# Altium footprint library PCB1.PcbLib: 15 footprints
Each footprint in its own frame and in the unit in brackets; x right, y up, seen from the top. Pads: shape width x height; smd on the part's side, far side on the other; paste and mask are expansions set on the pad; w line width, h text height; cw(c..) or ccw(c..) is an arc to the next point about the centre after c.
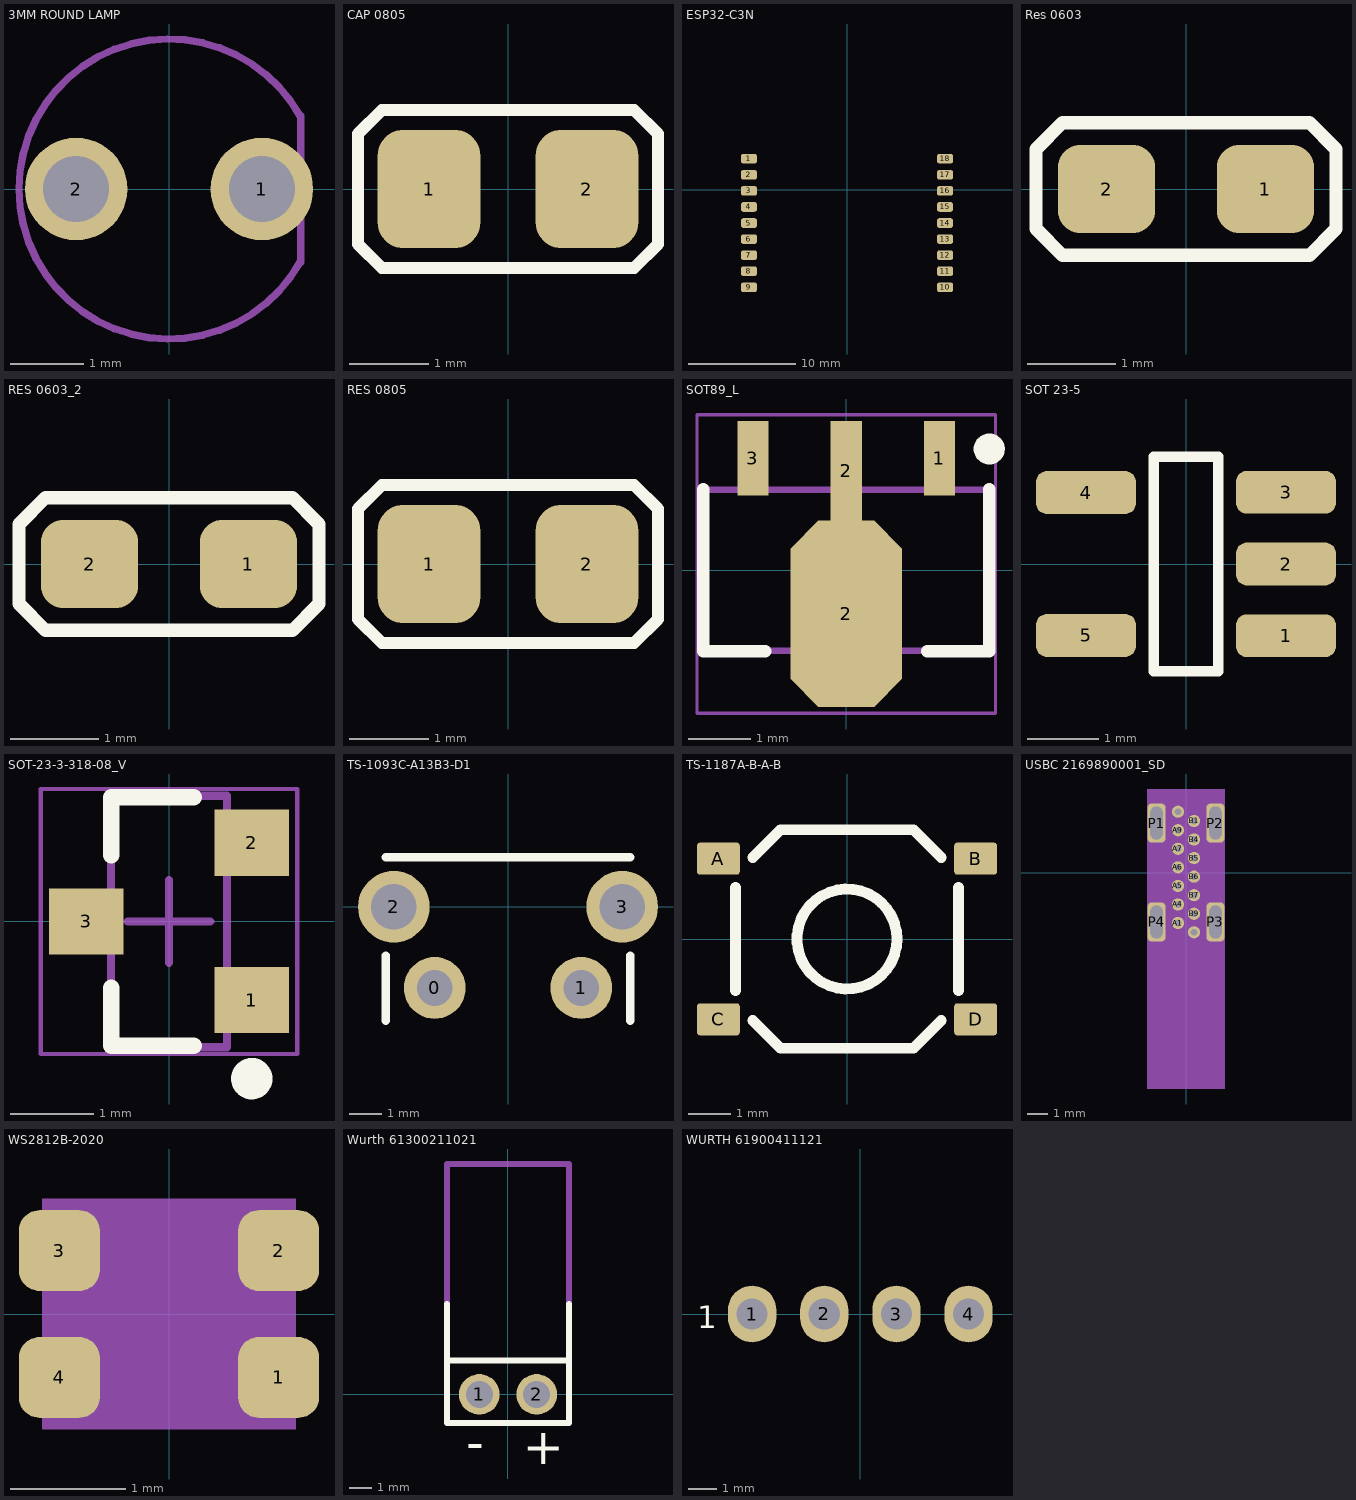
[diagram p0: the footprints below, top view; thin cyan lines are the x and y axes]

## 3MM ROUND LAMP [mm]
pads (2):
  round 1.4 hole 0.9: 1(1.27,0) 2(-1.27,0)
Mechanical 1:
  lines w0.1: 1.793,-0.994 cw(c0,0) 1.793,0.994 ; 1.8,-1 1.8,1
3D body "PCB components - LED.step": height 6.02, standoff -2.4, extent -2.05,-17.35 1.52,0.25

## CAP 0805 [mm]
pads (2):
  rrect50% 1.3x1.5 smd: 1(-1,0) 2(1,0)
Top Overlay:
  lines w0.15: -1.9,-0.7 -1.6,-1 1.6,-1 1.9,-0.7 1.9,0.7 1.6,1 -1.6,1 -1.9,0.7 -1.9,-0.7
3D body "CAPC-0805-T0.7-BN.stp": height 0.7, standoff 0, extent -1.05,-0.675 1.05,0.675

## ESP32-C3N [mm]
pads (18):
  rrect50% 1.5x0.9 smd: 1(-9.15,2.9) 2(-9.15,1.4) 3(-9.15,-0.1) 4(-9.15,-1.6) 5(-9.15,-3.1) 6(-9.15,-4.6) 7(-9.15,-6.1) 8(-9.15,-7.6) 9(-9.15,-9.1) 10(9.15,-9.1) 11(9.15,-7.6) 12(9.15,-6.1) 13(9.15,-4.6) 14(9.15,-3.1) 15(9.15,-1.6) 16(9.15,-0.1) 17(9.15,1.4) 18(9.15,2.9)
Multi-Layer:
  pour cut-out: -14,10 -14,4 14,4 14,10
3D body "PCB components - ESP32-C3-13.step": height 3.2, standoff 0, extent -9,-10 9,10

## Res 0603 [mm]
pads (2):
  rrect50% 1.1x1 smd: 1(0.9,0) 2(-0.9,0)
Top Overlay:
  lines w0.15: -1.7,-0.45 -1.7,0.45 -1.4,0.75 1.4,0.75 1.7,0.45 1.7,-0.45 1.4,-0.75 -1.4,-0.75 -1.7,-0.45
3D body "RESC-0603.stp": height 0.55, standoff 0, extent -0.85,-0.45 0.85,0.45

## RES 0603_2 [mm]
pads (2):
  rrect50% 1.1x1 smd: 1(0.9,0) 2(-0.9,0)
Top Overlay:
  lines w0.15: -1.7,-0.45 -1.7,0.45 -1.4,0.75 1.4,0.75 1.7,0.45 1.7,-0.45 1.4,-0.75 -1.4,-0.75 -1.7,-0.45
3D body "RESC-0603.stp": height 0.55, standoff 0, extent -0.85,-0.45 0.85,0.45

## RES 0805 [mm]
pads (2):
  rrect50% 1.3x1.5 smd: 1(-1,0) 2(1,0)
Top Overlay:
  lines w0.15: -1.9,-0.7 -1.6,-1 1.6,-1 1.9,-0.7 1.9,0.7 1.6,1 -1.6,1 -1.9,0.7 -1.9,-0.7
3D body "ferrite_bead_0805.STEP": height 0.9, standoff 0, extent -1,-0.6 1,0.6

## SOT89_L [mm]
pads (4):
  rect 0.5x1.2 smd: 1(1.5,1.8) 3(-1.5,1.8)
  oct 1.8x3 smd: 2(0,-0.7)
  rect 0.5x1.6 smd: 2(0,1.6)
Top Overlay:
  circle w0.25: c2.3,1.95 r0.125
  lines w0.2: -2.3,1.3 -2.3,-1.3 -1.3,-1.3 ; 1.3,-1.3 2.3,-1.3 2.3,1.3
Mechanical 13:
  lines w0.1: -2.3,-1.295 2.3,-1.295 2.3,1.295 -2.3,1.295 -2.3,-1.295
Mechanical 15:
  lines w0.05: -2.4,-2.3 2.4,-2.3 2.4,2.5 -2.4,2.5 -2.4,-2.3
  lines w0.1: -0.5,0 0.5,0 ; 0,-0.5 0,0.5
3D body: height 1.6, standoff 0, extent -2.3,-1.295 2.3,1.295

## SOT 23-5 [mm]
pads (5):
  rrect50% 1.4x0.6 smd: 1(1.4,-1.004) 2(1.4,0) 3(1.4,1.004) 4(-1.4,1) 5(-1.4,-1)
Top Overlay:
  lines w0.15: -0.45,-1.5 0.45,-1.5 0.45,1.5 -0.45,1.5 -0.45,-1.5
3D body "SOT23-5.stp": height 1.2, standoff 0.02, extent -1.5,-1.418 1.5,1.418

## SOT-23-3-318-08_V [mm]
pads (3):
  rect 0.9x0.8 smd: 1(1,-0.95) 2(1,0.95) 3(-1,0)
Top Overlay:
  circle w0.25: c1,-1.9 r0.125
  lines w0.2: -0.7,-0.8 -0.7,-1.5 0.3,-1.5 ; -0.7,0.8 -0.7,1.5 0.3,1.5
Mechanical 13:
  lines w0.1: -0.7,-1.52 -0.7,1.52 0.7,1.52 0.7,-1.52 -0.7,-1.52
Mechanical 15:
  lines w0.05: -1.55,-1.6 -1.55,1.6 1.55,1.6 1.55,-1.6 -1.55,-1.6
  lines w0.1: -0.5,0 0.5,0 ; 0,-0.5 0,0.5
3D body "SOT95P237X111-3L.step": height 1.11, standoff 0, extent -1.42,-1.52 1.42,1.52

## TS-1093C-A13B3-D1 [mm]
pads (4):
  round 1.9 hole 1.1: 0(-2.25,-2.49) 1(2.25,-2.49)
  round 2.2 hole 1.4: 2(-3.505,0) 3(3.505,0)
Top Overlay:
  lines w0.254: -3.75,-3.5 -3.75,-1.5 ; -3.75,1.52 3.75,1.52 ; 3.75,-3.5 3.75,-1.5
3D body "PCB components - Angled button (1).step": height 7.02, standoff -3.51, extent -4.11,-8.43 4.3,1.43

## TS-1187A-B-A-B [mm]
pads (4):
  rrect20% 1x0.75 smd: A(-3,1.875) B(3,1.875) C(-3,-1.875) D(3,-1.875)
Top Overlay:
  circle w0.254: c0,0 r1.166
  lines w0.254: -2.6,-1.2 -2.6,1.2 ; -2.2,-1.9 -1.55,-2.55 1.55,-2.55 2.2,-1.9 ; -2.2,1.9 -1.55,2.55 1.55,2.55 2.2,1.9 ; 2.6,-1.2 2.6,1.2
3D body "PCB components - TS-1187A-B-A-B.step": height 1.4, standoff 0, extent -3.239,-2.6 3.261,2.5

## USBC 2169890001_SD [mm]
pads (18):
  round 0.59 hole 0.33 paste+0 mask+0.05: A1(-0.39,-2.45) A4(-0.39,-1.55) A5(-0.39,-0.65) A6(-0.39,0.25) A7(-0.39,1.15) A9(-0.39,2.05) A12(-0.39,2.95) B1(0.39,2.5) B4(0.39,1.6) B5(0.39,0.7) B6(0.39,-0.2) B7(0.39,-1.1) B9(0.39,-2) B12(0.39,-2.9)
  rrect50% 0.88x1.9 hole 0.6 slot 1.6 at 90 deg paste+0 mask+0.05: P1(-1.43,2.4) P2(1.43,2.4) P3(1.43,-2.4) P4(-1.43,-2.4)
Mechanical 1:
  rectangle: -1.88,-10.5 1.88,4.05
3D body "PCB components - USB-C Connector.step": height 8.94, standoff -2.5, extent -1.9,-10.55 1.86,4

## WS2812B-2020 [mm]
pads (4):
  rrect50% 0.7x0.7 smd mask+0.08: 1(0.95,-0.55) 2(0.95,0.55) 3(-0.95,0.55) 4(-0.95,-0.55)
Mechanical 1:
  rectangle: -1.1,-1 1.1,1
3D body "PCB components - Neopixel Nano.step": height 0.84, standoff 0, extent -1.1,-1 1.1,1

## Wurth 61300211021 [mm]
pads (2):
  round 1.8 hole 1.2: 1(-1.27,0) 2(1.27,0)
Top Overlay:
  lines w0.254: -2.7,1.5 2.7,1.5 ; -2.7,4 -2.7,1.3 -2.7,-1.27 2.7,-1.27 2.7,1.5 ; 2.7,4 2.7,1.5
  text "+" at 0.658,-3.081 h1.6
  text "-" at -1.838,-2.883 h1.6
Bottom Overlay:
  text "-" at -1.7,-2.758 h0.8
  text "+" at 1.659,-2.581 h0.8
Mechanical 1:
  lines w0.254: -2.7,0.5 -2.7,10.2 2.7,10.2 2.7,0.5
3D body "61300211021_Download_STP_61300211021_rev1.stp": height 2.57, standoff -2.97, extent -2.54,-0.29 2.54,10.07

## WURTH 61900411121 [mm]
pads (4):
  oval 1.7x2 hole 1.1: 1(-3.81,0) 2(-1.27,0) 3(1.27,0) 4(3.81,0)
Top Overlay:
  text "1" at -5.75,-0.5 h0.8
Bottom Overlay:
  text "1" at -5.25,-0.5 h0.8